# Altium integrated library National Semiconductor Audio.IntLib: 683 symbols (part 4 of 18)
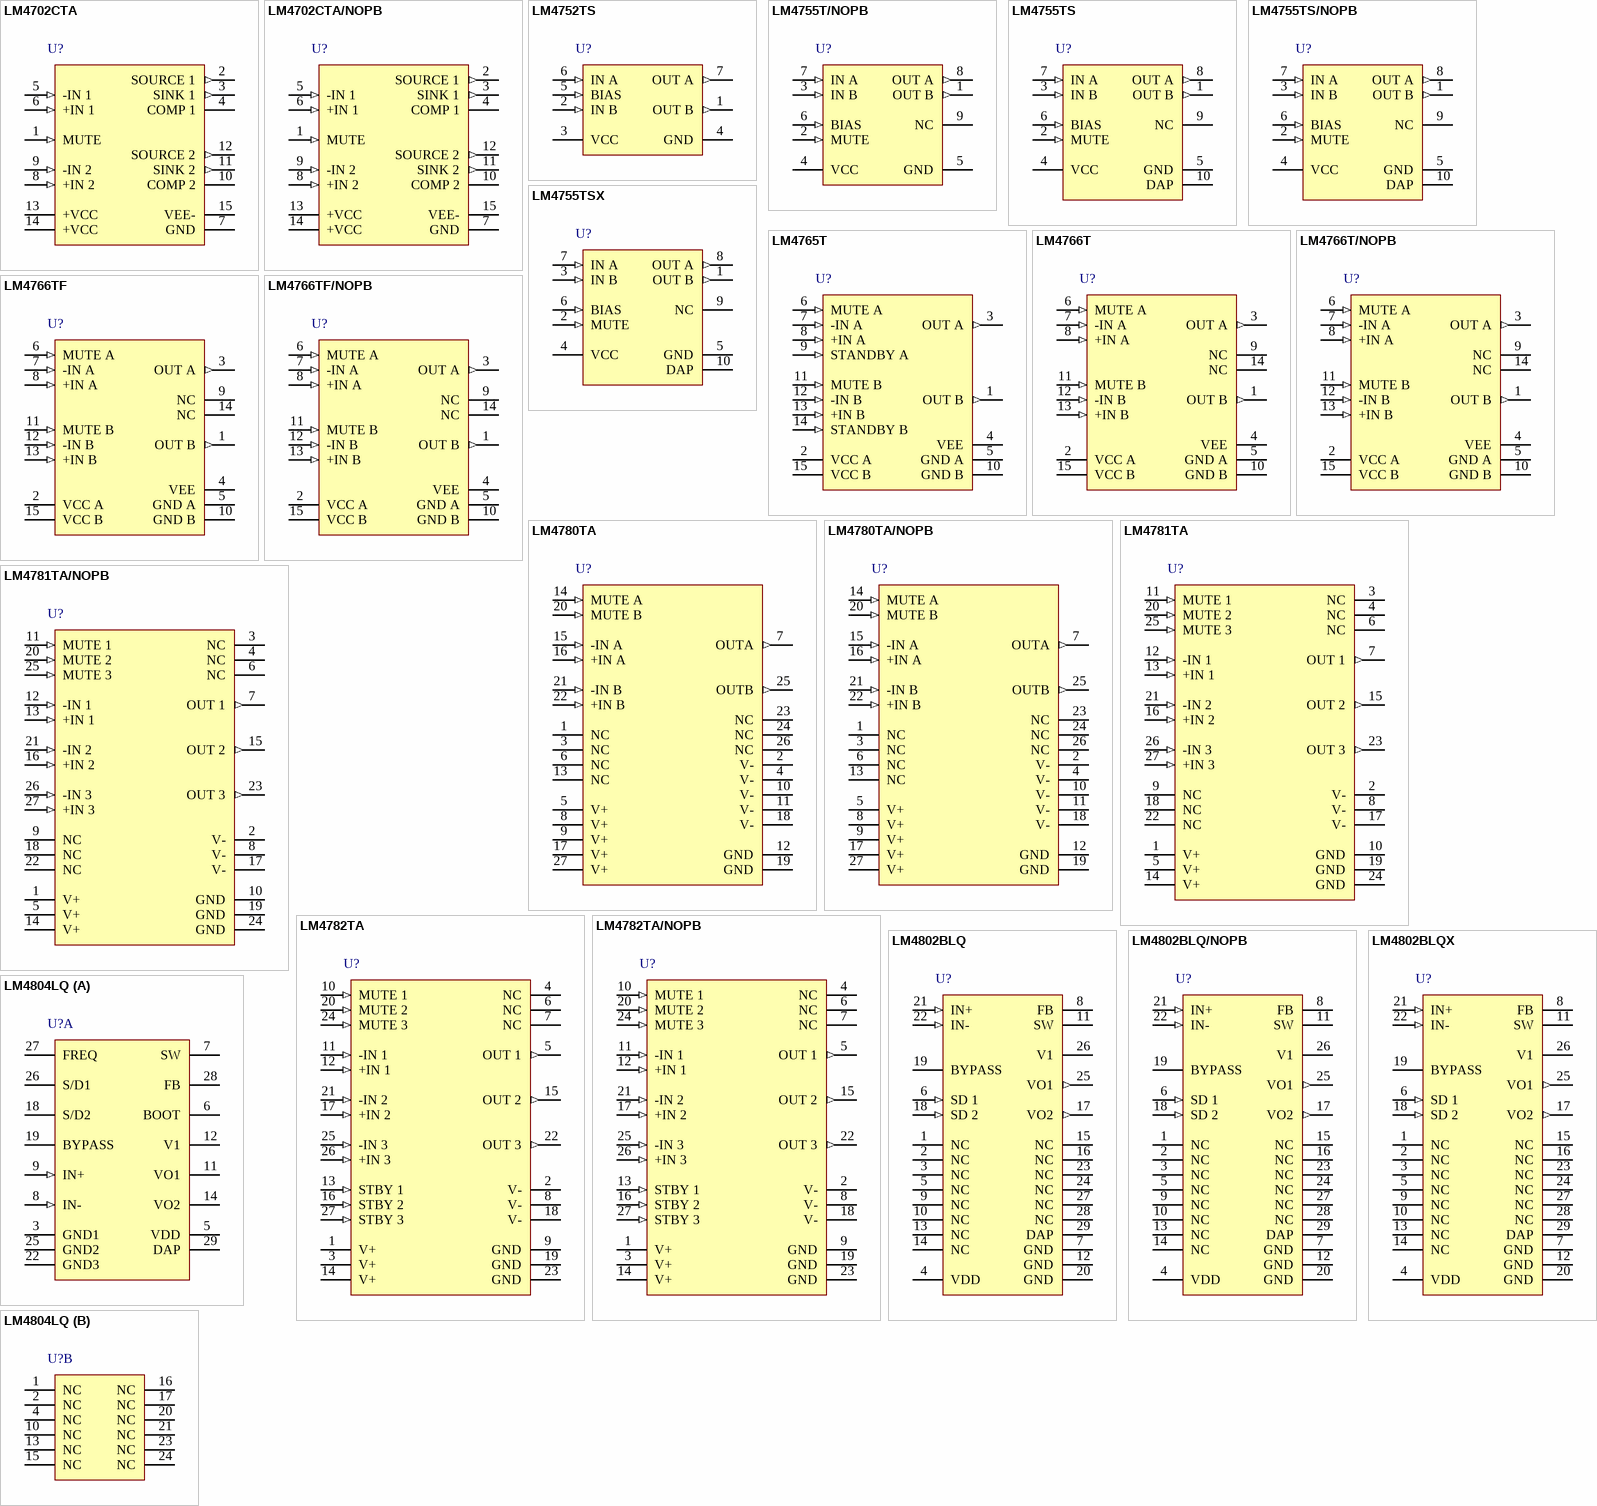
[diagram p30: symbols LM4702CTA to LM4804LQ]

## LM4755TSX
designator U?
Stereo 11W Audio Power Amplifier with Mute, 9-pin TO-263; PartNumber: LM4755TSX; Manufacturer: National Semiconductor; PackageTopMarking: NSUZXYTTE#*LM4755TS; PowerWise: N; CompType: Audio IC; High-Reliability: Y; DatasheetVersion: May-2008; PackageVersion: revB, Dec-2004; PackageReference: TS9A; PackageDescription: TO-263, Molded, 9 Lead, Surface Mount; RoHS: N; PinCount: 9; ComponentLink1Description: Manufacturer URL; ComponentLink1URL: http://www.national.com/; ComponentLink2Description: LM4755 Datasheet; ComponentLink2URL: http://www.national.com/ds/LM/LM4755.pdf; ComponentLink3Description: LM4755 Web Page; ComponentLink3URL: http://www.national.com/pf/LM/LM4755.html; ComponentLink4Description: TS9A Package Page; ComponentLink4URL: http://www.national.com/packaging/folders/ts9a.html
footprint TS9A_N (D2-PAK, 10-Leads, Body 8.7x10.2mm, Pitch 0.97mm, Lead Span 14.1mm, IPC Medium Density)
footprint TS9A_L (D2-PAK, 10-Leads, Body 8.7x10.2mm, Pitch 0.97mm, Lead Span 14.1mm, IPC High Density)
footprint TS9A_M (D2-PAK, 10-Leads, Body 8.7x10.2mm, Pitch 0.97mm, Lead Span 14.1mm, IPC Low Density)
pins: 1 OUT B (out), 2 MUTE (in), 3 IN B (in), 4 VCC (power), 5 GND (power), 6 BIAS (in), 7 IN A (in), 8 OUT A (out), 9 NC, 10 DAP (power)

## LM4765T
designator U?
Overture Audio Power Amplifier Series Dual 30-Watt Audio Power Amplifier with Mute and Standby Modes, 15-pin TO-220; PartNumber: LM4765T; Manufacturer: National Semiconductor; PackageTopMarking: NSUZXYTTE#*LM4765T; PowerWise: N; CompType: Audio IC; High-Reliability: Y; DatasheetVersion: Aug-2000; PackageVersion: revA, Nov-1985; PackageReference: TA15A; PackageDescription: TO-220, Molded, .788 x .421in Body, 15 Lead, .05in Pitch; RoHS: N; PinCount: 15; ComponentLink1Description: Manufacturer URL; ComponentLink1URL: http://www.national.com/; ComponentLink2Description: LM4765 Datasheet; ComponentLink2URL: http://www.national.com/ds/LM/LM4765.pdf; ComponentLink3Description: LM4765 Web Page; ComponentLink3URL: http://www.national.com/pf/LM/LM4765.html; ComponentLink4Description: TA15A Package Page; ComponentLink4URL: http://www.national.com/packaging/folders/ta15a.html
footprint TA15A (TO, Thru-Hole, Vertical, Heatsink Mounted; 15 Bent Staggered Leads; Body 20x10.7x4.5mm, Pitch 1.27 mm)
pins: 1 OUT B (out), 2 VCC A (power), 3 OUT A (out), 4 VEE (power), 5 GND A (power), 6 MUTE A (in), 7 -IN A (in), 8 +IN A (in), 9 STANDBY A (in), 10 GND B (power), 11 MUTE B (in), 12 -IN B (in), 13 +IN B (in), 14 STANDBY B (in), 15 VCC B (power)

## LM4766T
designator U?
Overture Audio Power Amplifier Series Dual 40-Watt Audio Power Amplifier with Mute, 15-pin TO-220; PartNumber: LM4766T; Manufacturer: National Semiconductor; PackageTopMarking: NSUZXYTTE#*LM4766T; PowerWise: N; CompType: Audio IC; High-Reliability: Y; DatasheetVersion: Mar-2006; PackageVersion: revA, Nov-1985; PackageReference: TA15A; PackageDescription: TO-220, Molded, .788 x .421in Body, 15 Lead, .05in Pitch; RoHS: N; PinCount: 15; ComponentLink1Description: Manufacturer URL; ComponentLink1URL: http://www.national.com/; ComponentLink2Description: LM4766 Datasheet; ComponentLink2URL: http://www.national.com/ds/LM/LM4766.pdf; ComponentLink3Description: LM4766 Web Page; ComponentLink3URL: http://www.national.com/pf/LM/LM4766.html; ComponentLink4Description: TA15A Package Page; ComponentLink4URL: http://www.national.com/packaging/folders/ta15a.html
footprint TA15A (TO, Thru-Hole, Vertical, Heatsink Mounted; 15 Bent Staggered Leads; Body 20x10.7x4.5mm, Pitch 1.27 mm)
pins: 1 OUT B (out), 2 VCC A (power), 3 OUT A (out), 4 VEE (power), 5 GND A (power), 6 MUTE A (in), 7 -IN A (in), 8 +IN A (in), 9 NC, 10 GND B (power), 11 MUTE B (in), 12 -IN B (in), 13 +IN B (in), 14 NC, 15 VCC B (power)

## LM4766T/NOPB
designator U?
Overture Audio Power Amplifier Series Dual 40-Watt Audio Power Amplifier with Mute, 15-pin TO-220, Pb-Free; PartNumber: LM4766T/NOPB; Manufacturer: National Semiconductor; PackageTopMarking: NSUZXYTTE#*LM4766T; PowerWise: N; CompType: Audio IC; High-Reliability: Y; DatasheetVersion: Mar-2006; PackageVersion: revA, Nov-1985; PackageReference: TA15A; PackageDescription: TO-220, Molded, .788 x .421in Body, 15 Lead, .05in Pitch; RoHS: Y; PinCount: 15; ComponentLink1Description: Manufacturer URL; ComponentLink1URL: http://www.national.com/; ComponentLink2Description: LM4766 Datasheet; ComponentLink2URL: http://www.national.com/ds/LM/LM4766.pdf; ComponentLink3Description: LM4766 Web Page; ComponentLink3URL: http://www.national.com/pf/LM/LM4766.html; ComponentLink4Description: TA15A Package Page; ComponentLink4URL: http://www.national.com/packaging/folders/ta15a.html
footprint TA15A (TO, Thru-Hole, Vertical, Heatsink Mounted; 15 Bent Staggered Leads; Body 20x10.7x4.5mm, Pitch 1.27 mm)
pins: 1 OUT B (out), 2 VCC A (power), 3 OUT A (out), 4 VEE (power), 5 GND A (power), 6 MUTE A (in), 7 -IN A (in), 8 +IN A (in), 9 NC, 10 GND B (power), 11 MUTE B (in), 12 -IN B (in), 13 +IN B (in), 14 NC, 15 VCC B (power)

## LM4766TF
designator U?
Overture Audio Power Amplifier Series Dual 40-Watt Audio Power Amplifier with Mute, 15-pin Isolated TO220; PartNumber: LM4766TF; Manufacturer: National Semiconductor; PackageTopMarking: NSUZXYTTE#*LM4766TF; PowerWise: N; CompType: Audio IC; High-Reliability: Y; DatasheetVersion: Mar-2006; PackageVersion: revB, Feb-1994; PackageReference: TF15B; PackageDescription: TO-220, Molded, 15 Lead, Staggered, Isolated; RoHS: N; PinCount: 15; ComponentLink1Description: Manufacturer URL; ComponentLink1URL: http://www.national.com/; ComponentLink2Description: LM4766 Datasheet; ComponentLink2URL: http://www.national.com/ds/LM/LM4766.pdf; ComponentLink3Description: LM4766 Web Page; ComponentLink3URL: http://www.national.com/pf/LM/LM4766.html; ComponentLink4Description: TF15B Package Page; ComponentLink4URL: http://www.national.com/packaging/folders/tf15b.html
footprint TF15B (TO, Thru-Hole, Vertical, Heatsink Mounted; 15 Bent Staggered Leads; Body 20x10.6x4.5mm, Pitch 1.27 mm)
pins: 1 OUT B (out), 2 VCC A (power), 3 OUT A (out), 4 VEE (power), 5 GND A (power), 6 MUTE A (in), 7 -IN A (in), 8 +IN A (in), 9 NC, 10 GND B (power), 11 MUTE B (in), 12 -IN B (in), 13 +IN B (in), 14 NC, 15 VCC B (power)

## LM4766TF/NOPB
designator U?
Overture Audio Power Amplifier Series Dual 40-Watt Audio Power Amplifier with Mute, 15-pin Isolated TO220, Pb-Free; PartNumber: LM4766TF/NOPB; Manufacturer: National Semiconductor; PackageTopMarking: NSUZXYTTE#*LM4766TF; PowerWise: N; CompType: Audio IC; High-Reliability: Y; DatasheetVersion: Mar-2006; PackageVersion: revB, Feb-1994; PackageReference: TF15B; PackageDescription: TO-220, Molded, 15 Lead, Staggered, Isolated; RoHS: Y; PinCount: 15; ComponentLink1Description: Manufacturer URL; ComponentLink1URL: http://www.national.com/; ComponentLink2Description: LM4766 Datasheet; ComponentLink2URL: http://www.national.com/ds/LM/LM4766.pdf; ComponentLink3Description: LM4766 Web Page; ComponentLink3URL: http://www.national.com/pf/LM/LM4766.html; ComponentLink4Description: TF15B Package Page; ComponentLink4URL: http://www.national.com/packaging/folders/tf15b.html
footprint TF15B (TO, Thru-Hole, Vertical, Heatsink Mounted; 15 Bent Staggered Leads; Body 20x10.6x4.5mm, Pitch 1.27 mm)
pins: 1 OUT B (out), 2 VCC A (power), 3 OUT A (out), 4 VEE (power), 5 GND A (power), 6 MUTE A (in), 7 -IN A (in), 8 +IN A (in), 9 NC, 10 GND B (power), 11 MUTE B (in), 12 -IN B (in), 13 +IN B (in), 14 NC, 15 VCC B (power)

## LM4780TA
designator U?
Overture Audio Power Amplifier Series Stereo 60W, Mono 120W Audio Power Amplifier with Mute, 27-pin TO-220; PartNumber: LM4780TA; Manufacturer: National Semiconductor; PackageTopMarking: NSUZXYTTE#*L4780TA; PowerWise: N; CompType: Audio IC; High-Reliability: Y; DatasheetVersion: Jan-2010; PackageVersion: revB, Apr-2003; PackageReference: TA27A; PackageDescription: TO-220, Molded, 1.150 x .618 x .177in Body, 27 Lead, .040in Pitch; RoHS: N; PinCount: 27; ComponentLink1Description: Manufacturer URL; ComponentLink1URL: http://www.national.com/; ComponentLink2Description: LM4780 Datasheet; ComponentLink2URL: http://www.national.com/ds/LM/LM4780.pdf; ComponentLink3Description: LM4780 Web Page; ComponentLink3URL: http://www.national.com/pf/LM/LM4780.html; ComponentLink4Description: TA27A Package Page; ComponentLink4URL: http://www.national.com/packaging/folders/ta27a.html
footprint TA27A (In-Line; 27 Zig-Zag Leads; Body 29.2 x 4.5mm; Pitch 1mm)
pins: 1 NC, 2 V- (power), 3 NC, 4 V- (power), 5 V+ (power), 6 NC, 7 OUTA (out), 8 V+ (power), 9 V+ (power), 10 V- (power), 11 V- (power), 12 GND (power), 13 NC, 14 MUTE A (in), 15 -IN A (in), 16 +IN A (in), 17 V+ (power), 18 V- (power), 19 GND (power), 20 MUTE B (in), 21 -IN B (in), 22 +IN B (in), 23 NC, 24 NC, 25 OUTB (out), 26 NC, 27 V+ (power)

## LM4780TA/NOPB
designator U?
Overture Audio Power Amplifier Series Stereo 60W, Mono 120W Audio Power Amplifier with Mute, 27-pin TO-220, Pb-Free; PartNumber: LM4780TA/NOPB; Manufacturer: National Semiconductor; PackageTopMarking: NSUZXYTTE#*L4780TA; PowerWise: N; CompType: Audio IC; High-Reliability: Y; DatasheetVersion: Jan-2010; PackageVersion: revB, Apr-2003; PackageReference: TA27A; PackageDescription: TO-220, Molded, 1.150 x .618 x .177in Body, 27 Lead, .040in Pitch; RoHS: Y; PinCount: 27; ComponentLink1Description: Manufacturer URL; ComponentLink1URL: http://www.national.com/; ComponentLink2Description: LM4780 Datasheet; ComponentLink2URL: http://www.national.com/ds/LM/LM4780.pdf; ComponentLink3Description: LM4780 Web Page; ComponentLink3URL: http://www.national.com/pf/LM/LM4780.html; ComponentLink4Description: TA27A Package Page; ComponentLink4URL: http://www.national.com/packaging/folders/ta27a.html
footprint TA27A (In-Line; 27 Zig-Zag Leads; Body 29.2 x 4.5mm; Pitch 1mm)
pins: 1 NC, 2 V- (power), 3 NC, 4 V- (power), 5 V+ (power), 6 NC, 7 OUTA (out), 8 V+ (power), 9 V+ (power), 10 V- (power), 11 V- (power), 12 GND (power), 13 NC, 14 MUTE A (in), 15 -IN A (in), 16 +IN A (in), 17 V+ (power), 18 V- (power), 19 GND (power), 20 MUTE B (in), 21 -IN B (in), 22 +IN B (in), 23 NC, 24 NC, 25 OUTB (out), 26 NC, 27 V+ (power)

## LM4781TA
designator U?
Overture Audio Power Amplifier Series 3 Channel 35W Audio Power Amplifier with Mute, 27-pin TO-220; PartNumber: LM4781TA; Manufacturer: National Semiconductor; PackageTopMarking: NSUZXYTTE#*L4781TA; PowerWise: N; CompType: Audio IC; High-Reliability: Y; DatasheetVersion: Aug-2003; PackageVersion: revB, Apr-2003; PackageReference: TA27A; PackageDescription: TO-220, Molded, 1.150 x .618 x .177in Body, 27 Lead, .040in Pitch; RoHS: N; PinCount: 27; ComponentLink1Description: Manufacturer URL; ComponentLink1URL: http://www.national.com/; ComponentLink2Description: LM4781 Datasheet; ComponentLink2URL: http://www.national.com/ds/LM/LM4781.pdf; ComponentLink3Description: LM4781 Web Page; ComponentLink3URL: http://www.national.com/pf/LM/LM4781.html; ComponentLink4Description: TA27A Package Page; ComponentLink4URL: http://www.national.com/packaging/folders/ta27a.html
footprint TA27A (In-Line; 27 Zig-Zag Leads; Body 29.2 x 4.5mm; Pitch 1mm)
pins: 1 V+ (power), 2 V- (power), 3 NC, 4 NC, 5 V+ (power), 6 NC, 7 OUT 1 (out), 8 V- (power), 9 NC, 10 GND (power), 11 MUTE 1 (in), 12 -IN 1 (in), 13 +IN 1 (in), 14 V+ (power), 15 OUT 2 (out), 16 +IN 2 (in), 17 V- (power), 18 NC, 19 GND (power), 20 MUTE 2 (in), 21 -IN 2 (in), 22 NC, 23 OUT 3 (out), 24 GND (power), 25 MUTE 3 (in), 26 -IN 3 (in), 27 +IN 3 (in)

## LM4781TA/NOPB
designator U?
Overture Audio Power Amplifier Series 3 Channel 35W Audio Power Amplifier with Mute, 27-pin TO-220, Pb-Free; PartNumber: LM4781TA/NOPB; Manufacturer: National Semiconductor; PackageTopMarking: NSUZXYTTE#*L4781TA; PowerWise: N; CompType: Audio IC; High-Reliability: Y; DatasheetVersion: Aug-2003; PackageVersion: revB, Apr-2003; PackageReference: TA27A; PackageDescription: TO-220, Molded, 1.150 x .618 x .177in Body, 27 Lead, .040in Pitch; RoHS: Y; PinCount: 27; ComponentLink1Description: Manufacturer URL; ComponentLink1URL: http://www.national.com/; ComponentLink2Description: LM4781 Datasheet; ComponentLink2URL: http://www.national.com/ds/LM/LM4781.pdf; ComponentLink3Description: LM4781 Web Page; ComponentLink3URL: http://www.national.com/pf/LM/LM4781.html; ComponentLink4Description: TA27A Package Page; ComponentLink4URL: http://www.national.com/packaging/folders/ta27a.html
footprint TA27A (In-Line; 27 Zig-Zag Leads; Body 29.2 x 4.5mm; Pitch 1mm)
pins: 1 V+ (power), 2 V- (power), 3 NC, 4 NC, 5 V+ (power), 6 NC, 7 OUT 1 (out), 8 V- (power), 9 NC, 10 GND (power), 11 MUTE 1 (in), 12 -IN 1 (in), 13 +IN 1 (in), 14 V+ (power), 15 OUT 2 (out), 16 +IN 2 (in), 17 V- (power), 18 NC, 19 GND (power), 20 MUTE 2 (in), 21 -IN 2 (in), 22 NC, 23 OUT 3 (out), 24 GND (power), 25 MUTE 3 (in), 26 -IN 3 (in), 27 +IN 3 (in)

## LM4782TA
designator U?
3 Channel 25W Audio Power Amplifier with Mute and Standby, 27-pin TO-220; PartNumber: LM4782TA; Manufacturer: National Semiconductor; PackageTopMarking: NSUZXYTTE#*LM4782TA; PowerWise: N; CompType: Audio IC; High-Reliability: Y; DatasheetVersion: Mar-2006; PackageVersion: revB, Apr-2003; PackageReference: TA27A; PackageDescription: TO-220, Molded, 1.150 x .618 x .177in Body, 27 Lead, .040in Pitch; RoHS: N; PinCount: 27; ComponentLink1Description: Manufacturer URL; ComponentLink1URL: http://www.national.com/; ComponentLink2Description: LM4782 Datasheet; ComponentLink2URL: http://www.national.com/ds/LM/LM4782.pdf; ComponentLink3Description: LM4782 Web Page; ComponentLink3URL: http://www.national.com/pf/LM/LM4782.html; ComponentLink4Description: TA27A Package Page; ComponentLink4URL: http://www.national.com/packaging/folders/ta27a.html
footprint TA27A (In-Line; 27 Zig-Zag Leads; Body 29.2 x 4.5mm; Pitch 1mm)
pins: 1 V+ (power), 2 V- (power), 3 V+ (power), 4 NC, 5 OUT 1 (out), 6 NC, 7 NC, 8 V- (power), 9 GND (power), 10 MUTE 1 (in), 11 -IN 1 (in), 12 +IN 1 (in), 13 STBY 1 (in), 14 V+ (power), 15 OUT 2 (out), 16 STBY 2 (in), 17 +IN 2 (in), 18 V- (power), 19 GND (power), 20 MUTE 2 (in), 21 -IN 2 (in), 22 OUT 3 (out), 23 GND (power), 24 MUTE 3 (in), 25 -IN 3 (in), 26 +IN 3 (in), 27 STBY 3 (in)

## LM4782TA/NOPB
designator U?
3 Channel 25W Audio Power Amplifier with Mute and Standby, 27-pin TO-220, Pb-Free; PartNumber: LM4782TA/NOPB; Manufacturer: National Semiconductor; PackageTopMarking: NSUZXYTTE#*LM4782TA; PowerWise: N; CompType: Audio IC; High-Reliability: Y; DatasheetVersion: Mar-2006; PackageVersion: revB, Apr-2003; PackageReference: TA27A; PackageDescription: TO-220, Molded, 1.150 x .618 x .177in Body, 27 Lead, .040in Pitch; RoHS: Y; PinCount: 27; ComponentLink1Description: Manufacturer URL; ComponentLink1URL: http://www.national.com/; ComponentLink2Description: LM4782 Datasheet; ComponentLink2URL: http://www.national.com/ds/LM/LM4782.pdf; ComponentLink3Description: LM4782 Web Page; ComponentLink3URL: http://www.national.com/pf/LM/LM4782.html; ComponentLink4Description: TA27A Package Page; ComponentLink4URL: http://www.national.com/packaging/folders/ta27a.html
footprint TA27A (In-Line; 27 Zig-Zag Leads; Body 29.2 x 4.5mm; Pitch 1mm)
pins: 1 V+ (power), 2 V- (power), 3 V+ (power), 4 NC, 5 OUT 1 (out), 6 NC, 7 NC, 8 V- (power), 9 GND (power), 10 MUTE 1 (in), 11 -IN 1 (in), 12 +IN 1 (in), 13 STBY 1 (in), 14 V+ (power), 15 OUT 2 (out), 16 STBY 2 (in), 17 +IN 2 (in), 18 V- (power), 19 GND (power), 20 MUTE 2 (in), 21 -IN 2 (in), 22 OUT 3 (out), 23 GND (power), 24 MUTE 3 (in), 25 -IN 3 (in), 26 +IN 3 (in), 27 STBY 3 (in)

## LM4802BLQ
designator U?
Audio Power Amplifier with DC-DC converter to drive Ceramic Speakers, 29-pin LLP; PartNumber: LM4802BLQ; Manufacturer: National Semiconductor; PackageTopMarking: NS*UZXYTT*4802BLQ; PowerWise: N; CompType: Audio IC; High-Reliability: Y; DatasheetVersion: Mar-2005; PackageVersion: revB, Jul-2001; PackageReference: LQA28A; PackageDescription: LLP, Plastic, Quad, 5 x 5 x 0.75mm Body, 28 Lead, 0.5mm Pitch; RoHS: N; PinCount: 28; Code_JEDEC: MO-220-WHHD-1; ComponentLink1Description: Manufacturer URL; ComponentLink1URL: http://www.national.com/; ComponentLink2Description: LM4802B Datasheet; ComponentLink2URL: http://www.national.com/ds/LM/LM4802B.pdf; ComponentLink3Description: LM4802B Web Page; ComponentLink3URL: http://www.national.com/pf/LM/LM4802B.html; ComponentLink4Description: LQA28A Package Page; ComponentLink4URL: http://www.national.com/packaging/folders/lqa28a.html
footprint LQA28A (PQFN, 28-Leads, Body 5x5mm, Pitch 0.5mm, Thermal Pad 3.3x3.3mm, NSC Recommended)
pins: 1 NC, 2 NC, 3 NC, 4 VDD (power), 5 NC, 6 SD 1 (in), 7 GND (power), 8 FB, 9 NC, 10 NC, 11 SW, 12 GND (power), 13 NC, 14 NC, 15 NC, 16 NC, 17 VO2 (out), 18 SD 2 (in), 19 BYPASS, 20 GND (power), 21 IN+ (in), 22 IN- (in), 23 NC, 24 NC, 25 VO1 (out), 26 V1 (power), 27 NC, 28 NC, 29 DAP (power)

## LM4802BLQ/NOPB
designator U?
Audio Power Amplifier with DC-DC converter to drive Ceramic Speakers, 28-pin LLP, Pb-Free; PartNumber: LM4802BLQ/NOPB; Manufacturer: National Semiconductor; PackageTopMarking: NS*UZXYTT*4802BLQ; PowerWise: N; CompType: Audio IC; High-Reliability: Y; DatasheetVersion: Mar-2005; PackageVersion: revB, Jul-2001; PackageReference: LQA28A; PackageDescription: LLP, Plastic, Quad, 5 x 5 x 0.75mm Body, 28 Lead, 0.5mm Pitch; RoHS: Y; PinCount: 28; Code_JEDEC: MO-220-WHHD-1; ComponentLink1Description: Manufacturer URL; ComponentLink1URL: http://www.national.com/; ComponentLink2Description: LM4802B Datasheet; ComponentLink2URL: http://www.national.com/ds/LM/LM4802B.pdf; ComponentLink3Description: LM4802B Web Page; ComponentLink3URL: http://www.national.com/pf/LM/LM4802B.html; ComponentLink4Description: LQA28A Package Page; ComponentLink4URL: http://www.national.com/packaging/folders/lqa28a.html
footprint LQA28A (PQFN, 28-Leads, Body 5x5mm, Pitch 0.5mm, Thermal Pad 3.3x3.3mm, NSC Recommended)
pins: 1 NC, 2 NC, 3 NC, 4 VDD (power), 5 NC, 6 SD 1 (in), 7 GND (power), 8 FB, 9 NC, 10 NC, 11 SW, 12 GND (power), 13 NC, 14 NC, 15 NC, 16 NC, 17 VO2 (out), 18 SD 2 (in), 19 BYPASS, 20 GND (power), 21 IN+ (in), 22 IN- (in), 23 NC, 24 NC, 25 VO1 (out), 26 V1 (power), 27 NC, 28 NC, 29 DAP (power)

## LM4802BLQX
designator U?
Audio Power Amplifier with DC-DC converter to drive Ceramic Speakers, 28-pin LLP; PartNumber: LM4802BLQX; Manufacturer: National Semiconductor; PackageTopMarking: NS*UZXYTT*4802BLQ; PowerWise: N; CompType: Audio IC; High-Reliability: Y; DatasheetVersion: Mar-2005; PackageVersion: revB, Jul-2001; PackageReference: LQA28A; PackageDescription: LLP, Plastic, Quad, 5 x 5 x 0.75mm Body, 28 Lead, 0.5mm Pitch; RoHS: N; PinCount: 28; Code_JEDEC: MO-220-WHHD-1; ComponentLink1Description: Manufacturer URL; ComponentLink1URL: http://www.national.com/; ComponentLink2Description: LM4802B Datasheet; ComponentLink2URL: http://www.national.com/ds/LM/LM4802B.pdf; ComponentLink3Description: LM4802B Web Page; ComponentLink3URL: http://www.national.com/pf/LM/LM4802B.html; ComponentLink4Description: LQA28A Package Page; ComponentLink4URL: http://www.national.com/packaging/folders/lqa28a.html
footprint LQA28A (PQFN, 28-Leads, Body 5x5mm, Pitch 0.5mm, Thermal Pad 3.3x3.3mm, NSC Recommended)
pins: 1 NC, 2 NC, 3 NC, 4 VDD (power), 5 NC, 6 SD 1 (in), 7 GND (power), 8 FB, 9 NC, 10 NC, 11 SW, 12 GND (power), 13 NC, 14 NC, 15 NC, 16 NC, 17 VO2 (out), 18 SD 2 (in), 19 BYPASS, 20 GND (power), 21 IN+ (in), 22 IN- (in), 23 NC, 24 NC, 25 VO1 (out), 26 V1 (power), 27 NC, 28 NC, 29 DAP (power)

## LM4804LQ
designator U?
Low Voltage High Power Audio Power Amplifier, 28 pin LLP; PartNumber: LM4804LQ; Manufacturer: National Semiconductor; PackageTopMarking: NS*UZXYTT*L4804LQ; PowerWise: N; CompType: Audio IC; High-Reliability: Y; DatasheetVersion: Jun-2005; PackageVersion: revB, Jul-2001; PackageReference: LQA28A; PackageDescription: LLP, Plastic, Quad, 5 x 5 x 0.75mm Body, 28 Lead, 0.5mm Pitch; RoHS: N; PinCount: 28; Code_JEDEC: MO-220-WHHD-1; ComponentLink1Description: Manufacturer URL; ComponentLink1URL: http://www.national.com/; ComponentLink2Description: LM4804 Datasheet; ComponentLink2URL: http://www.national.com/ds/LM/LM4804.pdf; ComponentLink3Description: LM4804 Web Page; ComponentLink3URL: http://www.national.com/pf/LM/LM4804.html; ComponentLink4Description: LQA28A Package Page; ComponentLink4URL: http://www.national.com/packaging/folders/lqa28a.html
footprint LQA28A (PQFN, 28-Leads, Body 5x5mm, Pitch 0.5mm, Thermal Pad 3.3x3.3mm, NSC Recommended)
part A pins: 3 GND1 (power), 5 VDD (power), 6 BOOT, 7 SW, 8 IN- (in), 9 IN+ (in), 11 VO1 (power), 12 V1 (power), 14 VO2 (power), 18 S/D2, 19 BYPASS, 22 GND3 (power), 25 GND2 (power), 26 S/D1, 27 FREQ, 28 FB, 29 DAP (power)
part B pins: 1 NC, 2 NC, 4 NC, 10 NC, 13 NC, 15 NC, 16 NC, 17 NC, 20 NC, 21 NC, 23 NC, 24 NC

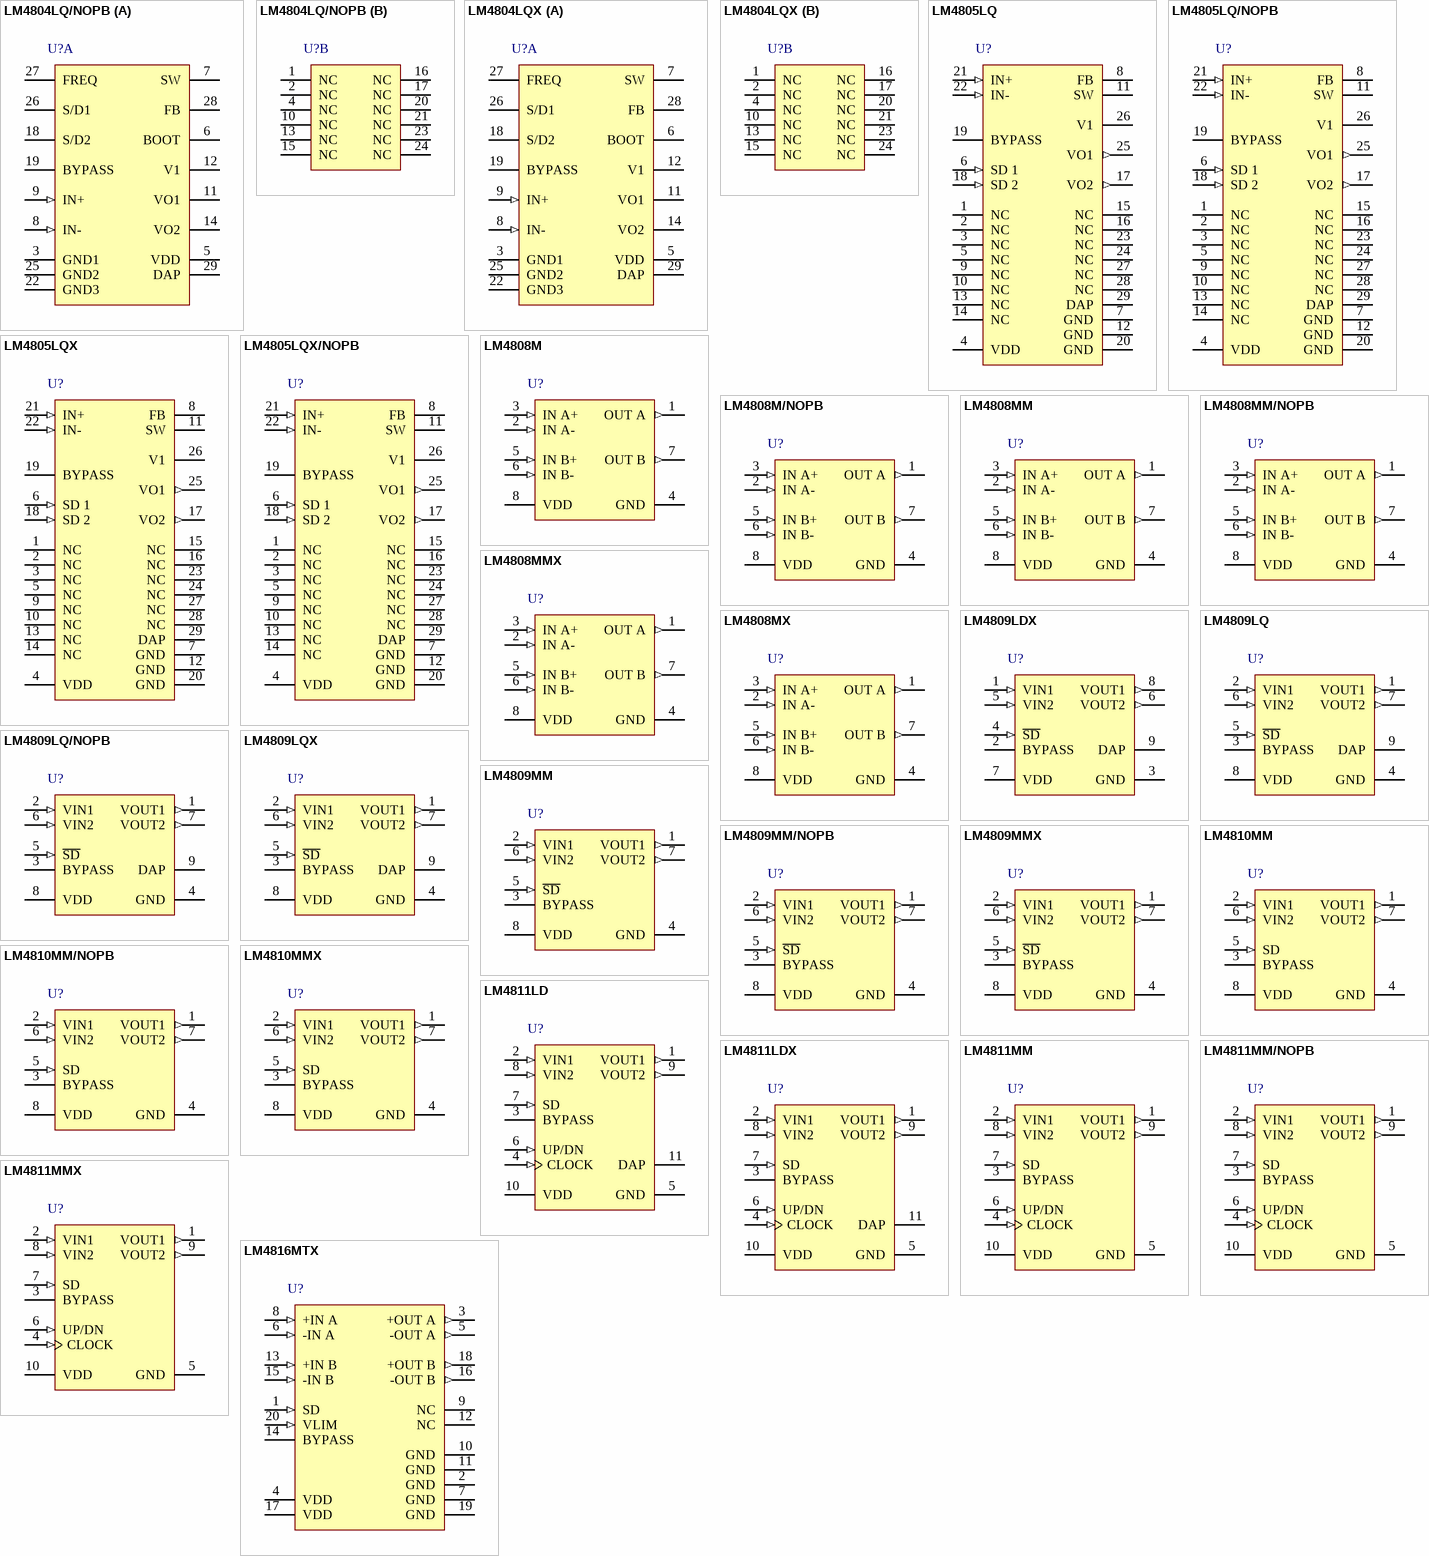
[diagram p5: symbols LM4804LQ/NOPB to LM4816MTX]

## LM4804LQ/NOPB
designator U?
Low Voltage High Power Audio Power Amplifier, 28 pin LLP; PartNumber: LM4804LQ/NOPB; Manufacturer: National Semiconductor; PackageTopMarking: NS*UZXYTT*L4804LQ; PowerWise: N; CompType: Audio IC; High-Reliability: Y; DatasheetVersion: Jun-2005; PackageVersion: revB, Jul-2001; PackageReference: LQA28A; PackageDescription: LLP, Plastic, Quad, 5 x 5 x 0.75mm Body, 28 Lead, 0.5mm Pitch; RoHS: Y; PinCount: 28; Code_JEDEC: MO-220-WHHD-1; ComponentLink1Description: Manufacturer URL; ComponentLink1URL: http://www.national.com/; ComponentLink2Description: LM4804 Datasheet; ComponentLink2URL: http://www.national.com/ds/LM/LM4804.pdf; ComponentLink3Description: LM4804 Web Page; ComponentLink3URL: http://www.national.com/pf/LM/LM4804.html; ComponentLink4Description: LQA28A Package Page; ComponentLink4URL: http://www.national.com/packaging/folders/lqa28a.html
footprint LQA28A (PQFN, 28-Leads, Body 5x5mm, Pitch 0.5mm, Thermal Pad 3.3x3.3mm, NSC Recommended)
part A pins: 3 GND1 (power), 5 VDD (power), 6 BOOT, 7 SW, 8 IN- (in), 9 IN+ (in), 11 VO1 (power), 12 V1 (power), 14 VO2 (power), 18 S/D2, 19 BYPASS, 22 GND3 (power), 25 GND2 (power), 26 S/D1, 27 FREQ, 28 FB, 29 DAP (power)
part B pins: 1 NC, 2 NC, 4 NC, 10 NC, 13 NC, 15 NC, 16 NC, 17 NC, 20 NC, 21 NC, 23 NC, 24 NC

## LM4804LQX
designator U?
Low Voltage High Power Audio Power Amplifier, 28-pin LLP; PartNumber: LM4804LQX; Manufacturer: National Semiconductor; PackageTopMarking: NS*UZXYTT*L4804LQ; PowerWise: N; CompType: Audio IC; High-Reliability: Y; DatasheetVersion: Jun-2005; PackageVersion: revB, Jul-2001; PackageReference: LQA28A; PackageDescription: LLP, Plastic, Quad, 5 x 5 x 0.75mm Body, 28 Lead, 0.5mm Pitch; RoHS: N; PinCount: 28; Code_JEDEC: MO-220-WHHD-1; ComponentLink1Description: Manufacturer URL; ComponentLink1URL: http://www.national.com/; ComponentLink2Description: LM4804 Datasheet; ComponentLink2URL: http://www.national.com/ds/LM/LM4804.pdf; ComponentLink3Description: LM4804 Web Page; ComponentLink3URL: http://www.national.com/pf/LM/LM4804.html; ComponentLink4Description: LQA28A Package Page; ComponentLink4URL: http://www.national.com/packaging/folders/lqa28a.html
footprint LQA28A (PQFN, 28-Leads, Body 5x5mm, Pitch 0.5mm, Thermal Pad 3.3x3.3mm, NSC Recommended)
part A pins: 3 GND1 (power), 5 VDD (power), 6 BOOT, 7 SW, 8 IN- (in), 9 IN+ (in), 11 VO1 (power), 12 V1 (power), 14 VO2 (power), 18 S/D2, 19 BYPASS, 22 GND3 (power), 25 GND2 (power), 26 S/D1, 27 FREQ, 28 FB, 29 DAP (power)
part B pins: 1 NC, 2 NC, 4 NC, 10 NC, 13 NC, 15 NC, 16 NC, 17 NC, 20 NC, 21 NC, 23 NC, 24 NC

## LM4805LQ
designator U?
Low Voltage High Power Audio Power Amplifier, 29-pin LLP; PartNumber: LM4805LQ; Manufacturer: National Semiconductor; PackageTopMarking: NS*UZXYTT*L4805LQ; PowerWise: N; CompType: Audio IC; High-Reliability: Y; DatasheetVersion: Aug-2005; PackageVersion: revB, Jul-2001; PackageReference: LQA28A; PackageDescription: LLP, Plastic, Quad, 5 x 5 x 0.75mm Body, 28 Lead, 0.5mm Pitch; RoHS: N; PinCount: 28; Code_JEDEC: MO-220-WHHD-1; ComponentLink1Description: Manufacturer URL; ComponentLink1URL: http://www.national.com/; ComponentLink2Description: LM4805 Datasheet; ComponentLink2URL: http://www.national.com/ds/LM/LM4805.pdf; ComponentLink3Description: LM4805 Web Page; ComponentLink3URL: http://www.national.com/pf/LM/LM4805.html; ComponentLink4Description: LQA28A Package Page; ComponentLink4URL: http://www.national.com/packaging/folders/lqa28a.html
footprint LQA28A (PQFN, 28-Leads, Body 5x5mm, Pitch 0.5mm, Thermal Pad 3.3x3.3mm, NSC Recommended)
pins: 1 NC, 2 NC, 3 NC, 4 VDD (power), 5 NC, 6 SD 1 (in), 7 GND (power), 8 FB, 9 NC, 10 NC, 11 SW, 12 GND (power), 13 NC, 14 NC, 15 NC, 16 NC, 17 VO2 (out), 18 SD 2 (in), 19 BYPASS, 20 GND (power), 21 IN+ (in), 22 IN- (in), 23 NC, 24 NC, 25 VO1 (out), 26 V1 (power), 27 NC, 28 NC, 29 DAP (power)

## LM4805LQ/NOPB
designator U?
Low Voltage High Power Audio Power Ampliier, 28-pin LLP, Pb-Free; PartNumber: LM4805LQ/NOPB; Manufacturer: National Semiconductor; PackageTopMarking: NS*UZXYTT*L4805LQ; PowerWise: N; CompType: Audio IC; High-Reliability: Y; DatasheetVersion: Aug-2005; PackageVersion: revB, Jul-2001; PackageReference: LQA28A; PackageDescription: LLP, Plastic, Quad, 5 x 5 x 0.75mm Body, 28 Lead, 0.5mm Pitch; RoHS: Y; PinCount: 28; Code_JEDEC: MO-220-WHHD-1; ComponentLink1Description: Manufacturer URL; ComponentLink1URL: http://www.national.com/; ComponentLink2Description: LM4805 Datasheet; ComponentLink2URL: http://www.national.com/ds/LM/LM4805.pdf; ComponentLink3Description: LM4805 Web Page; ComponentLink3URL: http://www.national.com/pf/LM/LM4805.html; ComponentLink4Description: LQA28A Package Page; ComponentLink4URL: http://www.national.com/packaging/folders/lqa28a.html
footprint LQA28A (PQFN, 28-Leads, Body 5x5mm, Pitch 0.5mm, Thermal Pad 3.3x3.3mm, NSC Recommended)
pins: 1 NC, 2 NC, 3 NC, 4 VDD (power), 5 NC, 6 SD 1 (in), 7 GND (power), 8 FB, 9 NC, 10 NC, 11 SW, 12 GND (power), 13 NC, 14 NC, 15 NC, 16 NC, 17 VO2 (out), 18 SD 2 (in), 19 BYPASS, 20 GND (power), 21 IN+ (in), 22 IN- (in), 23 NC, 24 NC, 25 VO1 (out), 26 V1 (power), 27 NC, 28 NC, 29 DAP (power)

## LM4805LQX
designator U?
Low Voltage High Power Audio Power Ampliier, 28-pin LLP; PartNumber: LM4805LQX; Manufacturer: National Semiconductor; PackageTopMarking: NS*UZXYTT*L4805LQ; PowerWise: N; CompType: Audio IC; High-Reliability: Y; DatasheetVersion: Aug-2005; PackageVersion: revB, Jul-2001; PackageReference: LQA28A; PackageDescription: LLP, Plastic, Quad, 5 x 5 x 0.75mm Body, 28 Lead, 0.5mm Pitch; RoHS: N; PinCount: 28; Code_JEDEC: MO-220-WHHD-1; ComponentLink1Description: Manufacturer URL; ComponentLink1URL: http://www.national.com/; ComponentLink2Description: LM4805 Datasheet; ComponentLink2URL: http://www.national.com/ds/LM/LM4805.pdf; ComponentLink3Description: LM4805 Web Page; ComponentLink3URL: http://www.national.com/pf/LM/LM4805.html; ComponentLink4Description: LQA28A Package Page; ComponentLink4URL: http://www.national.com/packaging/folders/lqa28a.html
footprint LQA28A (PQFN, 28-Leads, Body 5x5mm, Pitch 0.5mm, Thermal Pad 3.3x3.3mm, NSC Recommended)
pins: 1 NC, 2 NC, 3 NC, 4 VDD (power), 5 NC, 6 SD 1 (in), 7 GND (power), 8 FB, 9 NC, 10 NC, 11 SW, 12 GND (power), 13 NC, 14 NC, 15 NC, 16 NC, 17 VO2 (out), 18 SD 2 (in), 19 BYPASS, 20 GND (power), 21 IN+ (in), 22 IN- (in), 23 NC, 24 NC, 25 VO1 (out), 26 V1 (power), 27 NC, 28 NC, 29 DAP (power)

## LM4805LQX/NOPB
designator U?
Low Voltage High Power Audio Power Ampliier, 28-pin LLP; PartNumber: LM4805LQX/NOPB; Manufacturer: National Semiconductor; PackageTopMarking: NS*UZXYTT*L4805LQ; PowerWise: N; CompType: Audio IC; High-Reliability: Y; DatasheetVersion: Aug-2005; PackageVersion: revB, Jul-2001; PackageReference: LQA28A; PackageDescription: LLP, Plastic, Quad, 5 x 5 x 0.75mm Body, 28 Lead, 0.5mm Pitch; RoHS: Y; PinCount: 28; Code_JEDEC: MO-220-WHHD-1; ComponentLink1Description: Manufacturer URL; ComponentLink1URL: http://www.national.com/; ComponentLink2Description: LM4805 Datasheet; ComponentLink2URL: http://www.national.com/ds/LM/LM4805.pdf; ComponentLink3Description: LM4805 Web Page; ComponentLink3URL: http://www.national.com/pf/LM/LM4805.html; ComponentLink4Description: LQA28A Package Page; ComponentLink4URL: http://www.national.com/packaging/folders/lqa28a.html
footprint LQA28A (PQFN, 28-Leads, Body 5x5mm, Pitch 0.5mm, Thermal Pad 3.3x3.3mm, NSC Recommended)
pins: 1 NC, 2 NC, 3 NC, 4 VDD (power), 5 NC, 6 SD 1 (in), 7 GND (power), 8 FB, 9 NC, 10 NC, 11 SW, 12 GND (power), 13 NC, 14 NC, 15 NC, 16 NC, 17 VO2 (out), 18 SD 2 (in), 19 BYPASS, 20 GND (power), 21 IN+ (in), 22 IN- (in), 23 NC, 24 NC, 25 VO1 (out), 26 V1 (power), 27 NC, 28 NC, 29 DAP (power)

## LM4808M
designator U?
Dual 105 mW Headphone Amplifier, 8-pin Narrow SOIC; PartNumber: LM4808M; Manufacturer: National Semiconductor; PackageTopMarking: NSZXTT*LM48*08M; PowerWise: N; CompType: Audio IC; High-Reliability: Y; DatasheetVersion: Aug-2001; PackageVersion: revM, May-2009; PackageReference: M08A; PackageDescription: SOIC Narrow, 4.9 x 3.9 x 1.45mm, 8 Lead, 1.27mm Pitch; RoHS: N; PinCount: 8; Code_JEDEC: MS-012-AA; Code_IPC: SOIC127P600-8; ComponentLink1Description: Manufacturer URL; ComponentLink1URL: http://www.national.com/; ComponentLink2Description: LM4808 Datasheet; ComponentLink2URL: http://www.national.com/ds/LM/LM4808.pdf; ComponentLink3Description: LM4808 Web Page; ComponentLink3URL: http://www.national.com/pf/LM/LM4808.html; ComponentLink4Description: M08A Package Page; ComponentLink4URL: http://www.national.com/packaging/folders/m08a.html
footprint M08A_N (SOIC, 8-Leads, Body 4.9x3.9mm, Pitch 1.27mm, IPC Medium Density)
footprint M08A_L (SOIC, 8-Leads, Body 4.9x3.9mm, Pitch 1.27mm, IPC High Density)
footprint M08A_M (SOIC, 8-Leads, Body 4.9x3.9mm, Pitch 1.27mm, IPC Low Density)
pins: 1 OUT A (out), 2 IN A- (in), 3 IN A+ (in), 4 GND (power), 5 IN B+ (in), 6 IN B- (in), 7 OUT B (out), 8 VDD (power)

## LM4808M/NOPB
designator U?
Dual 105 mW Headphone Amplifier, 8-pin Narrow SOIC, Pb-Free; PartNumber: LM4808M/NOPB; Manufacturer: National Semiconductor; PackageTopMarking: NSZXTT*LM48*08M; PowerWise: N; CompType: Audio IC; High-Reliability: Y; DatasheetVersion: Aug-2001; PackageVersion: revM, May-2009; PackageReference: M08A; PackageDescription: SOIC Narrow, 4.9 x 3.9 x 1.45mm, 8 Lead, 1.27mm Pitch; RoHS: Y; PinCount: 8; Code_JEDEC: MS-012-AA; Code_IPC: SOIC127P600-8; ComponentLink1Description: Manufacturer URL; ComponentLink1URL: http://www.national.com/; ComponentLink2Description: LM4808 Datasheet; ComponentLink2URL: http://www.national.com/ds/LM/LM4808.pdf; ComponentLink3Description: LM4808 Web Page; ComponentLink3URL: http://www.national.com/pf/LM/LM4808.html; ComponentLink4Description: M08A Package Page; ComponentLink4URL: http://www.national.com/packaging/folders/m08a.html
footprint M08A_N (SOIC, 8-Leads, Body 4.9x3.9mm, Pitch 1.27mm, IPC Medium Density)
footprint M08A_L (SOIC, 8-Leads, Body 4.9x3.9mm, Pitch 1.27mm, IPC High Density)
footprint M08A_M (SOIC, 8-Leads, Body 4.9x3.9mm, Pitch 1.27mm, IPC Low Density)
pins: 1 OUT A (out), 2 IN A- (in), 3 IN A+ (in), 4 GND (power), 5 IN B+ (in), 6 IN B- (in), 7 OUT B (out), 8 VDD (power)

## LM4808MM
designator U?
Dual 105 mW Headphone Amplifier, 8-pin Mini SOIC; PartNumber: LM4808MM; Manufacturer: National Semiconductor; PackageTopMarking: ZXTT*G08; PowerWise: N; CompType: Audio IC; High-Reliability: Y; DatasheetVersion: Aug-2001; PackageVersion: revF, Apr-2008; PackageReference: MUA08A; PackageDescription: MINI SOIC, .118 x .118 x .034in, 8 Lead, .0256in Pitch; RoHS: N; PinCount: 8; Code_JEDEC: MO-187-AA; ComponentLink1Description: Manufacturer URL; ComponentLink1URL: http://www.national.com/; ComponentLink2Description: LM4808 Datasheet; ComponentLink2URL: http://www.national.com/ds/LM/LM4808.pdf; ComponentLink3Description: LM4808 Web Page; ComponentLink3URL: http://www.national.com/pf/LM/LM4808.html; ComponentLink4Description: MUA08A Package Page; ComponentLink4URL: http://www.national.com/packaging/folders/mua08a.html
footprint MUA08A_N (TSOP, 8-Leads, Body 3x3mm, Pitch 0.65mm, IPC Medium Density)
footprint MUA08A_L (TSOP, 8-Leads, Body 3x3mm, Pitch 0.65mm, IPC High Density)
footprint MUA08A_M (TSOP, 8-Leads, Body 3x3mm, Pitch 0.65mm, IPC Low Density)
pins: 1 OUT A (out), 2 IN A- (in), 3 IN A+ (in), 4 GND (power), 5 IN B+ (in), 6 IN B- (in), 7 OUT B (out), 8 VDD (power)

## LM4808MM/NOPB
designator U?
Dual 105 mW Headphone Amplifier, 8-pin Mini SOIC, Pb-Free; PartNumber: LM4808MM/NOPB; Manufacturer: National Semiconductor; PackageTopMarking: ZXTT*G08; PowerWise: N; CompType: Audio IC; High-Reliability: Y; DatasheetVersion: Aug-2001; PackageVersion: revF, Apr-2008; PackageReference: MUA08A; PackageDescription: MINI SOIC, .118 x .118 x .034in, 8 Lead, .0256in Pitch; RoHS: Y; PinCount: 8; Code_JEDEC: MO-187-AA; ComponentLink1Description: Manufacturer URL; ComponentLink1URL: http://www.national.com/; ComponentLink2Description: LM4808 Datasheet; ComponentLink2URL: http://www.national.com/ds/LM/LM4808.pdf; ComponentLink3Description: LM4808 Web Page; ComponentLink3URL: http://www.national.com/pf/LM/LM4808.html; ComponentLink4Description: MUA08A Package Page; ComponentLink4URL: http://www.national.com/packaging/folders/mua08a.html
footprint MUA08A_N (TSOP, 8-Leads, Body 3x3mm, Pitch 0.65mm, IPC Medium Density)
footprint MUA08A_L (TSOP, 8-Leads, Body 3x3mm, Pitch 0.65mm, IPC High Density)
footprint MUA08A_M (TSOP, 8-Leads, Body 3x3mm, Pitch 0.65mm, IPC Low Density)
pins: 1 OUT A (out), 2 IN A- (in), 3 IN A+ (in), 4 GND (power), 5 IN B+ (in), 6 IN B- (in), 7 OUT B (out), 8 VDD (power)

## LM4808MMX
designator U?
Dual 105 mW Headphone Amplifier, 8-pin Mini SOIC; PartNumber: LM4808MMX; Manufacturer: National Semiconductor; PackageTopMarking: ZXTT*G08; PowerWise: N; CompType: Audio IC; High-Reliability: Y; DatasheetVersion: Aug-2001; PackageVersion: revF, Apr-2008; PackageReference: MUA08A; PackageDescription: MINI SOIC, .118 x .118 x .034in, 8 Lead, .0256in Pitch; RoHS: N; PinCount: 8; Code_JEDEC: MO-187-AA; ComponentLink1Description: Manufacturer URL; ComponentLink1URL: http://www.national.com/; ComponentLink2Description: LM4808 Datasheet; ComponentLink2URL: http://www.national.com/ds/LM/LM4808.pdf; ComponentLink3Description: LM4808 Web Page; ComponentLink3URL: http://www.national.com/pf/LM/LM4808.html; ComponentLink4Description: MUA08A Package Page; ComponentLink4URL: http://www.national.com/packaging/folders/mua08a.html
footprint MUA08A_N (TSOP, 8-Leads, Body 3x3mm, Pitch 0.65mm, IPC Medium Density)
footprint MUA08A_L (TSOP, 8-Leads, Body 3x3mm, Pitch 0.65mm, IPC High Density)
footprint MUA08A_M (TSOP, 8-Leads, Body 3x3mm, Pitch 0.65mm, IPC Low Density)
pins: 1 OUT A (out), 2 IN A- (in), 3 IN A+ (in), 4 GND (power), 5 IN B+ (in), 6 IN B- (in), 7 OUT B (out), 8 VDD (power)

## LM4808MX
designator U?
Dual 105 mW Headphone Amplifier, 8-pin Narrow SOIC; PartNumber: LM4808MX; Manufacturer: National Semiconductor; PackageTopMarking: NSZXTT*LM48*08M; PowerWise: N; CompType: Audio IC; High-Reliability: Y; DatasheetVersion: Aug-2001; PackageVersion: revM, May-2009; PackageReference: M08A; PackageDescription: SOIC Narrow, 4.9 x 3.9 x 1.45mm, 8 Lead, 1.27mm Pitch; RoHS: N; PinCount: 8; Code_JEDEC: MS-012-AA; Code_IPC: SOIC127P600-8; ComponentLink1Description: Manufacturer URL; ComponentLink1URL: http://www.national.com/; ComponentLink2Description: LM4808 Datasheet; ComponentLink2URL: http://www.national.com/ds/LM/LM4808.pdf; ComponentLink3Description: LM4808 Web Page; ComponentLink3URL: http://www.national.com/pf/LM/LM4808.html; ComponentLink4Description: M08A Package Page; ComponentLink4URL: http://www.national.com/packaging/folders/m08a.html
footprint M08A_N (SOIC, 8-Leads, Body 4.9x3.9mm, Pitch 1.27mm, IPC Medium Density)
footprint M08A_L (SOIC, 8-Leads, Body 4.9x3.9mm, Pitch 1.27mm, IPC High Density)
footprint M08A_M (SOIC, 8-Leads, Body 4.9x3.9mm, Pitch 1.27mm, IPC Low Density)
pins: 1 OUT A (out), 2 IN A- (in), 3 IN A+ (in), 4 GND (power), 5 IN B+ (in), 6 IN B- (in), 7 OUT B (out), 8 VDD (power)

## LM4809LDX
designator U?
Dual 105mW Headphone Amplifier with Active-Low Shutdown Mode, 8-pin LLP; PartNumber: LM4809LDX; Manufacturer: National Semiconductor; PackageTopMarking: XYTT*G09; PowerWise: N; CompType: Audio IC; High-Reliability: Y; DatasheetVersion: Apr-2004; PackageVersion: revB, Jun-2003; PackageReference: LDA08B; PackageDescription: LLP, Plastic, Dual, 2.5 x 2.5 x 0.75mm Body, 8 Lead, 0.5mm Pitch; RoHS: N; PinCount: 8; Code_JEDEC: MO-229-WDDD-2; ComponentLink1Description: Manufacturer URL; ComponentLink1URL: http://www.national.com/; ComponentLink2Description: LM4809 Datasheet; ComponentLink2URL: http://www.national.com/ds/LM/LM4809.pdf; ComponentLink3Description: LM4809 Web Page; ComponentLink3URL: http://www.national.com/pf/LM/LM4809.html; ComponentLink4Description: LDA08B Package Page; ComponentLink4URL: http://www.national.com/packaging/folders/lda08b.html
footprint LDA08B (PSON, 8-Leads, Body 2.5x2.5mm, Pitch 0.5mm, NSC Recommended)
pins: 1 VIN1 (in), 2 BYPASS, 3 GND (power), 4 ~{SD} (in), 5 VIN2 (in), 6 VOUT2 (out), 7 VDD (power), 8 VOUT1 (out), 9 DAP (power)

## LM4809LQ
designator U?
Dual 105mW Headphone Amplifier with Active-Low Shutdown Mode, 9-pin LLP; PartNumber: LM4809LQ; Manufacturer: National Semiconductor; PackageTopMarking: XTT*GB3; PowerWise: N; CompType: Audio IC; High-Reliability: Y; DatasheetVersion: Apr-2004; PackageVersion: revB, Nov-2002; PackageReference: LQB08A; PackageDescription: LLP, Plastic, Quad, 2 x 2 x 0.75mm Body, 8 Lead, 0.65mm Pitch; RoHS: N; PinCount: 8; ComponentLink1Description: Manufacturer URL; ComponentLink1URL: http://www.national.com/; ComponentLink2Description: LM4809 Datasheet; ComponentLink2URL: http://www.national.com/ds/LM/LM4809.pdf; ComponentLink3Description: LM4809 Web Page; ComponentLink3URL: http://www.national.com/pf/LM/LM4809.html; ComponentLink4Description: LQB08A Package Page; ComponentLink4URL: http://www.national.com/packaging/folders/lqb08a.html
footprint LQB08A (PQFN, 8-Leads, Body 2x2mm, Pitch 0.65mm, Thermal Pad 0.8x0.8mm, NSC Recommended)
pins: 1 VOUT1 (out), 2 VIN1 (in), 3 BYPASS, 4 GND (power), 5 ~{SD} (in), 6 VIN2 (in), 7 VOUT2 (out), 8 VDD (power), 9 DAP (power)

## LM4809LQ/NOPB
designator U?
Dual 105mW Headphone Amplifier with Active-Low Shutdown Mode, 8-pin LLP, Pb-Free; PartNumber: LM4809LQ/NOPB; Manufacturer: National Semiconductor; PackageTopMarking: XTT*GB3; PowerWise: N; CompType: Audio IC; High-Reliability: Y; DatasheetVersion: Apr-2004; PackageVersion: revB, Nov-2002; PackageReference: LQB08A; PackageDescription: LLP, Plastic, Quad, 2 x 2 x 0.75mm Body, 8 Lead, 0.65mm Pitch; RoHS: Y; PinCount: 8; ComponentLink1Description: Manufacturer URL; ComponentLink1URL: http://www.national.com/; ComponentLink2Description: LM4809 Datasheet; ComponentLink2URL: http://www.national.com/ds/LM/LM4809.pdf; ComponentLink3Description: LM4809 Web Page; ComponentLink3URL: http://www.national.com/pf/LM/LM4809.html; ComponentLink4Description: LQB08A Package Page; ComponentLink4URL: http://www.national.com/packaging/folders/lqb08a.html
footprint LQB08A (PQFN, 8-Leads, Body 2x2mm, Pitch 0.65mm, Thermal Pad 0.8x0.8mm, NSC Recommended)
pins: 1 VOUT1 (out), 2 VIN1 (in), 3 BYPASS, 4 GND (power), 5 ~{SD} (in), 6 VIN2 (in), 7 VOUT2 (out), 8 VDD (power), 9 DAP (power)

## LM4809LQX
designator U?
Dual 105mW Headphone Amplifier with Active-Low Shutdown Mode, 8-pin LLP; PartNumber: LM4809LQX; Manufacturer: National Semiconductor; PackageTopMarking: XTT*GB3; PowerWise: N; CompType: Audio IC; High-Reliability: Y; DatasheetVersion: Apr-2004; PackageVersion: revB, Nov-2002; PackageReference: LQB08A; PackageDescription: LLP, Plastic, Quad, 2 x 2 x 0.75mm Body, 8 Lead, 0.65mm Pitch; RoHS: N; PinCount: 8; ComponentLink1Description: Manufacturer URL; ComponentLink1URL: http://www.national.com/; ComponentLink2Description: LM4809 Datasheet; ComponentLink2URL: http://www.national.com/ds/LM/LM4809.pdf; ComponentLink3Description: LM4809 Web Page; ComponentLink3URL: http://www.national.com/pf/LM/LM4809.html; ComponentLink4Description: LQB08A Package Page; ComponentLink4URL: http://www.national.com/packaging/folders/lqb08a.html
footprint LQB08A (PQFN, 8-Leads, Body 2x2mm, Pitch 0.65mm, Thermal Pad 0.8x0.8mm, NSC Recommended)
pins: 1 VOUT1 (out), 2 VIN1 (in), 3 BYPASS, 4 GND (power), 5 ~{SD} (in), 6 VIN2 (in), 7 VOUT2 (out), 8 VDD (power), 9 DAP (power)

## LM4809MM
designator U?
Dual 105mW Headphone Amplifier with Active-Low Shutdown Mode, 8-pin Mini SOIC; PartNumber: LM4809MM; Manufacturer: National Semiconductor; PackageTopMarking: ZXTT*G09; PowerWise: N; CompType: Audio IC; High-Reliability: Y; DatasheetVersion: Apr-2004; PackageVersion: revF, Apr-2008; PackageReference: MUA08A; PackageDescription: MINI SOIC, .118 x .118 x .034in, 8 Lead, .0256in Pitch; RoHS: N; PinCount: 8; Code_JEDEC: MO-187-AA; ComponentLink1Description: Manufacturer URL; ComponentLink1URL: http://www.national.com/; ComponentLink2Description: LM4809 Datasheet; ComponentLink2URL: http://www.national.com/ds/LM/LM4809.pdf; ComponentLink3Description: LM4809 Web Page; ComponentLink3URL: http://www.national.com/pf/LM/LM4809.html; ComponentLink4Description: MUA08A Package Page; ComponentLink4URL: http://www.national.com/packaging/folders/mua08a.html
footprint MUA08A_N (TSOP, 8-Leads, Body 3x3mm, Pitch 0.65mm, IPC Medium Density)
footprint MUA08A_L (TSOP, 8-Leads, Body 3x3mm, Pitch 0.65mm, IPC High Density)
footprint MUA08A_M (TSOP, 8-Leads, Body 3x3mm, Pitch 0.65mm, IPC Low Density)
pins: 1 VOUT1 (out), 2 VIN1 (in), 3 BYPASS, 4 GND (power), 5 ~{SD} (in), 6 VIN2 (in), 7 VOUT2 (out), 8 VDD (power)

## LM4809MM/NOPB
designator U?
Dual 105mW Headphone Amplifier with Active-Low Shutdown Mode, 8-pin Mini SOIC, Pb-Free; PartNumber: LM4809MM/NOPB; Manufacturer: National Semiconductor; PackageTopMarking: ZXTT*G09; PowerWise: N; CompType: Audio IC; High-Reliability: Y; DatasheetVersion: Apr-2004; PackageVersion: revF, Apr-2008; PackageReference: MUA08A; PackageDescription: MINI SOIC, .118 x .118 x .034in, 8 Lead, .0256in Pitch; RoHS: Y; PinCount: 8; Code_JEDEC: MO-187-AA; ComponentLink1Description: Manufacturer URL; ComponentLink1URL: http://www.national.com/; ComponentLink2Description: LM4809 Datasheet; ComponentLink2URL: http://www.national.com/ds/LM/LM4809.pdf; ComponentLink3Description: LM4809 Web Page; ComponentLink3URL: http://www.national.com/pf/LM/LM4809.html; ComponentLink4Description: MUA08A Package Page; ComponentLink4URL: http://www.national.com/packaging/folders/mua08a.html
footprint MUA08A_N (TSOP, 8-Leads, Body 3x3mm, Pitch 0.65mm, IPC Medium Density)
footprint MUA08A_L (TSOP, 8-Leads, Body 3x3mm, Pitch 0.65mm, IPC High Density)
footprint MUA08A_M (TSOP, 8-Leads, Body 3x3mm, Pitch 0.65mm, IPC Low Density)
pins: 1 VOUT1 (out), 2 VIN1 (in), 3 BYPASS, 4 GND (power), 5 ~{SD} (in), 6 VIN2 (in), 7 VOUT2 (out), 8 VDD (power)

## LM4809MMX
designator U?
Dual 105mW Headphone Amplifier with Active-Low Shutdown Mode, 8-pin Mini SOIC; PartNumber: LM4809MMX; Manufacturer: National Semiconductor; PackageTopMarking: ZXTT*G09; PowerWise: N; CompType: Audio IC; High-Reliability: Y; DatasheetVersion: Apr-2004; PackageVersion: revF, Apr-2008; PackageReference: MUA08A; PackageDescription: MINI SOIC, .118 x .118 x .034in, 8 Lead, .0256in Pitch; RoHS: N; PinCount: 8; Code_JEDEC: MO-187-AA; ComponentLink1Description: Manufacturer URL; ComponentLink1URL: http://www.national.com/; ComponentLink2Description: LM4809 Datasheet; ComponentLink2URL: http://www.national.com/ds/LM/LM4809.pdf; ComponentLink3Description: LM4809 Web Page; ComponentLink3URL: http://www.national.com/pf/LM/LM4809.html; ComponentLink4Description: MUA08A Package Page; ComponentLink4URL: http://www.national.com/packaging/folders/mua08a.html
footprint MUA08A_N (TSOP, 8-Leads, Body 3x3mm, Pitch 0.65mm, IPC Medium Density)
footprint MUA08A_L (TSOP, 8-Leads, Body 3x3mm, Pitch 0.65mm, IPC High Density)
footprint MUA08A_M (TSOP, 8-Leads, Body 3x3mm, Pitch 0.65mm, IPC Low Density)
pins: 1 VOUT1 (out), 2 VIN1 (in), 3 BYPASS, 4 GND (power), 5 ~{SD} (in), 6 VIN2 (in), 7 VOUT2 (out), 8 VDD (power)

## LM4810MM
designator U?
Dual 105mW Headphone Amplifier with Active-High Shutdown Mode, 8-pin Mini SOIC; PartNumber: LM4810MM; Manufacturer: National Semiconductor; PackageTopMarking: ZXTT*G10; PowerWise: N; CompType: Audio IC; High-Reliability: Y; DatasheetVersion: Nov-2002; PackageVersion: revF, Apr-2008; PackageReference: MUA08A; PackageDescription: MINI SOIC, .118 x .118 x .034in, 8 Lead, .0256in Pitch; RoHS: N; PinCount: 8; Code_JEDEC: MO-187-AA; ComponentLink1Description: Manufacturer URL; ComponentLink1URL: http://www.national.com/; ComponentLink2Description: LM4810 Datasheet; ComponentLink2URL: http://www.national.com/ds/LM/LM4810.pdf; ComponentLink3Description: LM4810 Web Page; ComponentLink3URL: http://www.national.com/pf/LM/LM4810.html; ComponentLink4Description: MUA08A Package Page; ComponentLink4URL: http://www.national.com/packaging/folders/mua08a.html
footprint MUA08A_N (TSOP, 8-Leads, Body 3x3mm, Pitch 0.65mm, IPC Medium Density)
footprint MUA08A_L (TSOP, 8-Leads, Body 3x3mm, Pitch 0.65mm, IPC High Density)
footprint MUA08A_M (TSOP, 8-Leads, Body 3x3mm, Pitch 0.65mm, IPC Low Density)
pins: 1 VOUT1 (out), 2 VIN1 (in), 3 BYPASS, 4 GND (power), 5 SD (in), 6 VIN2 (in), 7 VOUT2 (out), 8 VDD (power)

## LM4810MM/NOPB
designator U?
Dual 105mW Headphone Amplifier with Active-High Shutdown Mode, 8-pin Mini SOIC, Pb-Free; PartNumber: LM4810MM/NOPB; Manufacturer: National Semiconductor; PackageTopMarking: ZXTT*G10; PowerWise: N; CompType: Audio IC; High-Reliability: Y; DatasheetVersion: Nov-2002; PackageVersion: revF, Apr-2008; PackageReference: MUA08A; PackageDescription: MINI SOIC, .118 x .118 x .034in, 8 Lead, .0256in Pitch; RoHS: Y; PinCount: 8; Code_JEDEC: MO-187-AA; ComponentLink1Description: Manufacturer URL; ComponentLink1URL: http://www.national.com/; ComponentLink2Description: LM4810 Datasheet; ComponentLink2URL: http://www.national.com/ds/LM/LM4810.pdf; ComponentLink3Description: LM4810 Web Page; ComponentLink3URL: http://www.national.com/pf/LM/LM4810.html; ComponentLink4Description: MUA08A Package Page; ComponentLink4URL: http://www.national.com/packaging/folders/mua08a.html
footprint MUA08A_N (TSOP, 8-Leads, Body 3x3mm, Pitch 0.65mm, IPC Medium Density)
footprint MUA08A_L (TSOP, 8-Leads, Body 3x3mm, Pitch 0.65mm, IPC High Density)
footprint MUA08A_M (TSOP, 8-Leads, Body 3x3mm, Pitch 0.65mm, IPC Low Density)
pins: 1 VOUT1 (out), 2 VIN1 (in), 3 BYPASS, 4 GND (power), 5 SD (in), 6 VIN2 (in), 7 VOUT2 (out), 8 VDD (power)

## LM4810MMX
designator U?
Dual 105mW Headphone Amplifier with Active-High Shutdown Mode, 8-pin Mini SOIC; PartNumber: LM4810MMX; Manufacturer: National Semiconductor; PackageTopMarking: ZXTT*G10; PowerWise: N; CompType: Audio IC; High-Reliability: Y; DatasheetVersion: Nov-2002; PackageVersion: revF, Apr-2008; PackageReference: MUA08A; PackageDescription: MINI SOIC, .118 x .118 x .034in, 8 Lead, .0256in Pitch; RoHS: N; PinCount: 8; Code_JEDEC: MO-187-AA; ComponentLink1Description: Manufacturer URL; ComponentLink1URL: http://www.national.com/; ComponentLink2Description: LM4810 Datasheet; ComponentLink2URL: http://www.national.com/ds/LM/LM4810.pdf; ComponentLink3Description: LM4810 Web Page; ComponentLink3URL: http://www.national.com/pf/LM/LM4810.html; ComponentLink4Description: MUA08A Package Page; ComponentLink4URL: http://www.national.com/packaging/folders/mua08a.html
footprint MUA08A_N (TSOP, 8-Leads, Body 3x3mm, Pitch 0.65mm, IPC Medium Density)
footprint MUA08A_L (TSOP, 8-Leads, Body 3x3mm, Pitch 0.65mm, IPC High Density)
footprint MUA08A_M (TSOP, 8-Leads, Body 3x3mm, Pitch 0.65mm, IPC Low Density)
pins: 1 VOUT1 (out), 2 VIN1 (in), 3 BYPASS, 4 GND (power), 5 SD (in), 6 VIN2 (in), 7 VOUT2 (out), 8 VDD (power)

## LM4811LD
designator U?
Dual 105mW Headphone Amplifier with Digital Volume Control and Shutdown Mode, 11-pin LLP; PartNumber: LM4811LD; Manufacturer: National Semiconductor; PackageTopMarking: ZXYTT*G11; PowerWise: N; CompType: Audio IC; High-Reliability: Y; DatasheetVersion: Apr-2006; PackageVersion: revB, Jan-2003; PackageReference: LDA10A; PackageDescription: LLP, Plastic, Dual, 3 x 3 x 0.75mm Body, 10 Lead, 0.5mm Pitch; RoHS: N; PinCount: 10; ComponentLink1Description: Manufacturer URL; ComponentLink1URL: http://www.national.com/; ComponentLink2Description: LM4811 Datasheet; ComponentLink2URL: http://www.national.com/ds/LM/LM4811.pdf; ComponentLink3Description: LM4811 Web Page; ComponentLink3URL: http://www.national.com/pf/LM/LM4811.html; ComponentLink4Description: LDA10A Package Page; ComponentLink4URL: http://www.national.com/packaging/folders/lda10a.html
footprint LDA10A (PSON, 10-Leads, Body 3x3mm, Pitch 0.5mm, NSC Recommended)
pins: 1 VOUT1 (out), 2 VIN1 (in), 3 BYPASS, 4 CLOCK (in), 5 GND (power), 6 UP/DN (in), 7 SD (in), 8 VIN2 (in), 9 VOUT2 (out), 10 VDD (power), 11 DAP (power)

## LM4811LDX
designator U?
Dual 105mW Headphone Amplifier with Digital Volume Control and Shutdown Mode, 10-pin LLP; PartNumber: LM4811LDX; Manufacturer: National Semiconductor; PackageTopMarking: ZXYTT*G11; PowerWise: N; CompType: Audio IC; High-Reliability: Y; DatasheetVersion: Apr-2006; PackageVersion: revB, Jan-2003; PackageReference: LDA10A; PackageDescription: LLP, Plastic, Dual, 3 x 3 x 0.75mm Body, 10 Lead, 0.5mm Pitch; RoHS: N; PinCount: 10; ComponentLink1Description: Manufacturer URL; ComponentLink1URL: http://www.national.com/; ComponentLink2Description: LM4811 Datasheet; ComponentLink2URL: http://www.national.com/ds/LM/LM4811.pdf; ComponentLink3Description: LM4811 Web Page; ComponentLink3URL: http://www.national.com/pf/LM/LM4811.html; ComponentLink4Description: LDA10A Package Page; ComponentLink4URL: http://www.national.com/packaging/folders/lda10a.html
footprint LDA10A (PSON, 10-Leads, Body 3x3mm, Pitch 0.5mm, NSC Recommended)
pins: 1 VOUT1 (out), 2 VIN1 (in), 3 BYPASS, 4 CLOCK (in), 5 GND (power), 6 UP/DN (in), 7 SD (in), 8 VIN2 (in), 9 VOUT2 (out), 10 VDD (power), 11 DAP (power)